# Altium footprint library 接插件.PCBLIB: 113 footprints (part 7 of 8)
Each footprint in its own frame and in the unit in brackets; x right, y up, seen from the top. Pads: shape width x height; smd on the part's side, far side on the other; paste and mask are expansions set on the pad; w line width, h text height; cw(c..) or ccw(c..) is an arc to the next point about the centre after c.
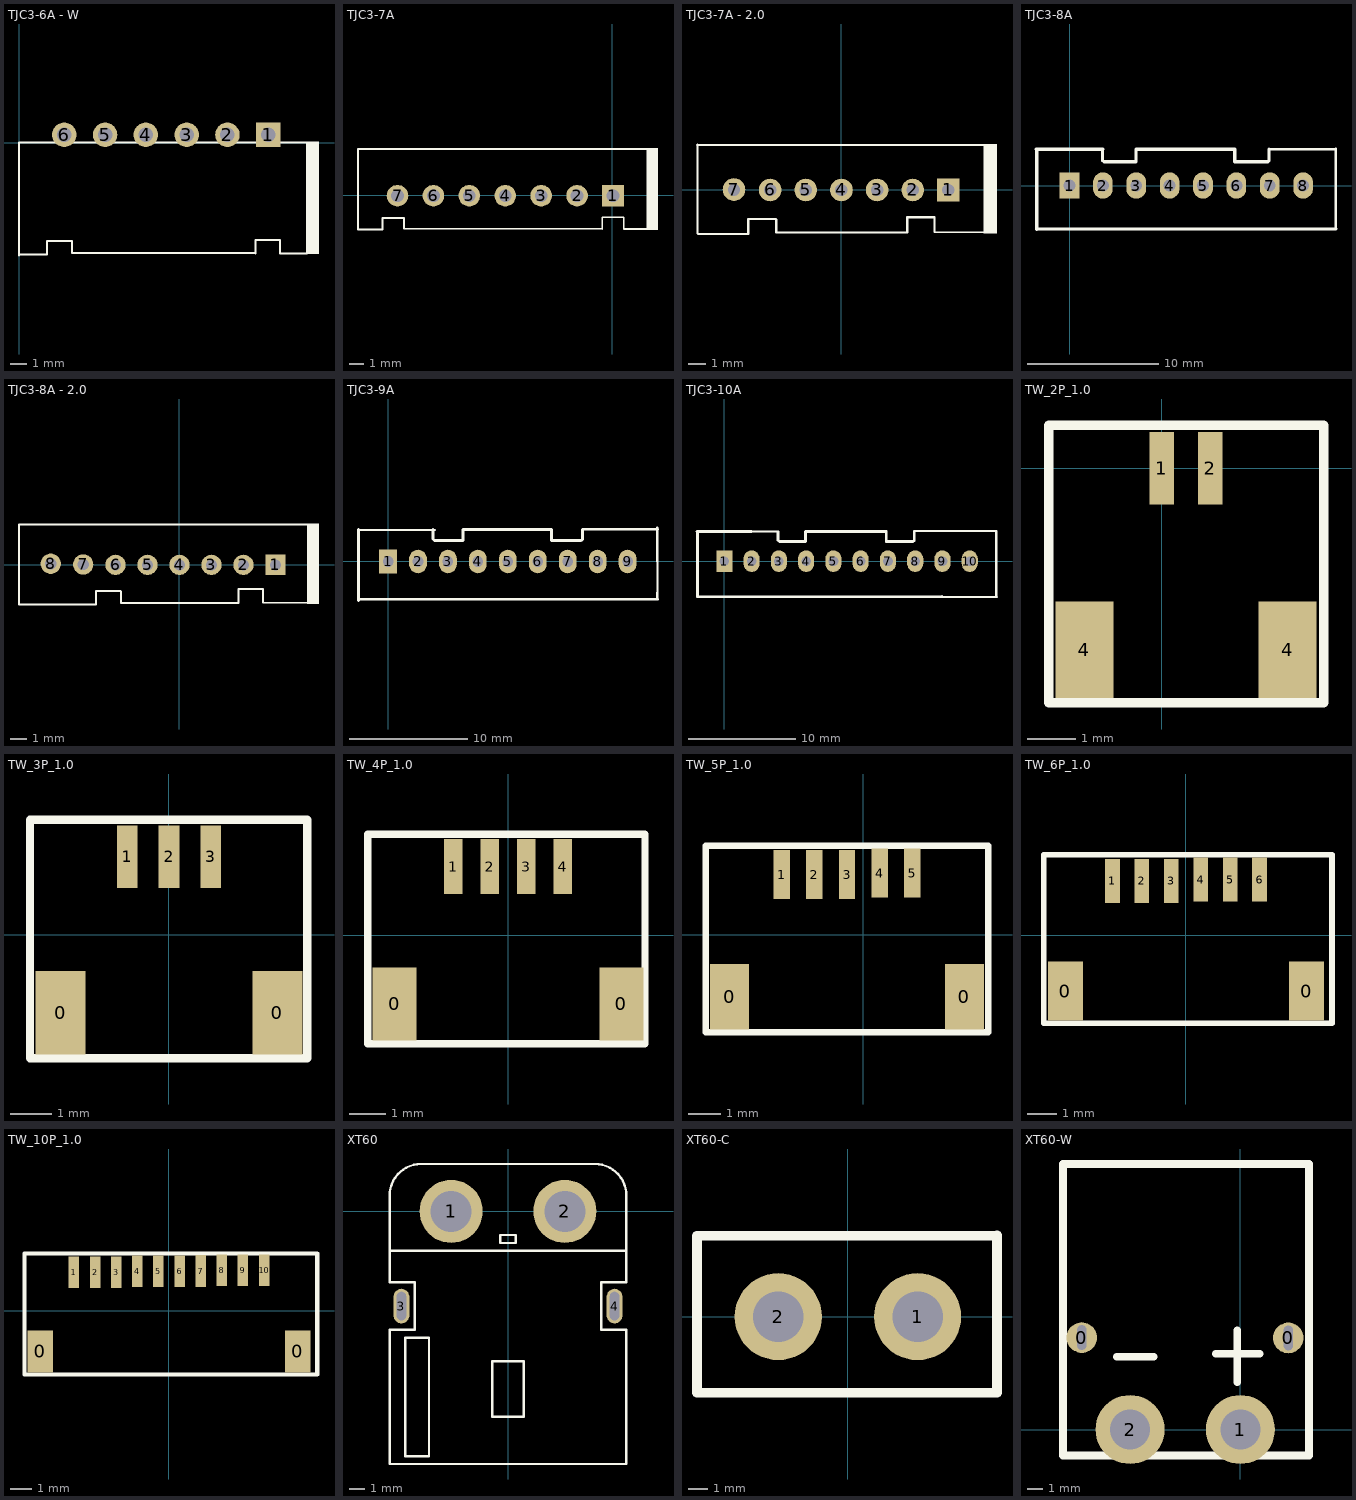
[diagram p6: the footprints below, top view; thin cyan lines are the x and y axes]

## TJC3-6A - W [mil]
pads (6):
  rect 60x60 hole 35.43: 1(610.31,19.75)
  round 60 hole 35.43: 2(510.31,19.75) 3(410.31,19.75) 4(310.31,19.75) 5(210.31,19.75) 6(110.31,19.75)
TopOverlay:
  rectangle: 705,-272.64 734.66,3.55
  lines w5: -0.67,-275.59 -0.67,0.72 ; -0.67,1.05 213.66,1.05 705,1.05 705,-269.69 ; 0.66,-273.17 67.66,-273.17 67.66,-240.65 ; 68.66,-240.17 128.66,-240.17 ; 120.33,1.05 120.66,0.72 ; 129.66,-241.17 129.66,-270.17 576.25,-270.17 ; 579.33,-270.61 579.33,-238.09 639.33,-238.09 639.33,-270.61 705,-270.61

## TJC3-7A [mil]
pads (7):
  rect 60x60 hole 35.43: 1(1.67,-0.92)
  round 60 hole 35.43: 2(-98.33,-0.92) 3(-198.33,-0.92) 4(-298.33,-0.92) 5(-398.33,-0.92) 6(-498.33,-0.92) 7(-598.33,-0.92)
TopOverlay:
  rectangle: 97.34,-96 127,131.5
  lines w5: -708.33,128.67 -708.33,-94.92 -641.33,-94.92 ; -708.33,129 -394,129 97.34,129 97.34,-93.44 31.67,-93.44 31.67,-60.92 -28.33,-60.92 -28.33,-93.44 ; -640,-95.52 -640,-63 -580,-63 -580,-92 ; -580,-93 -31.41,-93 ; -487.33,129 -487,128.67

## TJC3-7A - 2.0 [mm]
pads (7):
  rect 1.27x1.27 hole 0.7: 1(6.013,-0.012)
  round 1.27 hole 0.7: 2(4.013,-0.012) 3(2.013,-0.012) 4(0.013,-0.012) 5(-1.988,-0.012) 6(-3.988,-0.012) 7(-6.013,0.013)
TopOverlay:
  rectangle: 7.984,-2.462 8.738,2.563
  lines w0.1: -8.087,2.513 7.963,2.513 ; -8.062,-2.462 -8.062,2.538 ; 5.213,-2.387 8.163,-2.387
  lines w0.127: -8.037,-2.476 -5.219,-2.476 -5.219,-1.65 ; -5.193,-1.638 -3.669,-1.638 ; -3.644,-1.663 -3.644,-2.4 3.713,-2.4 ; 3.702,-2.361 3.702,-1.535 5.226,-1.535 5.226,-2.361

## TJC3-8A [mm]
pads (8):
  rect 1.5x2 hole 0.9: 1(0,0)
  oval 1.5x2 hole 0.9: 2(2.54,0) 3(5.08,0) 4(7.62,0) 5(10.16,0) 6(12.7,0) 7(15.24,0) 8(17.78,0)
TopOverlay:
  lines w0.2: 15.15,2.75 20.225,2.75 ; 20.275,-3.3 20.275,2.8
  lines w0.254: -2.55,2.775 2.53,2.775 ; -2.5,-3.325 20.28,-3.299 ; -2.5,-3.3 -2.5,2.7 ; 2.505,2.725 2.505,1.925 2.63,1.8 5.055,1.8 ; 15.18,2.75 15.18,1.9 15.08,1.8 12.58,1.8 12.58,2.75 5.055,2.75 5.055,1.8 ; 5.055,1.8 5.055,1.8

## TJC3-8A - 2.0 [mm]
pads (8):
  rect 1.27x1.27 hole 0.7: 1(6.013,-0.012)
  round 1.27 hole 0.7: 2(4.013,-0.012) 3(2.013,-0.012) 4(0.013,-0.012) 5(-1.988,-0.012) 6(-3.988,-0.012) 7(-6.013,0.013) 8(-8.038,0.063)
TopOverlay:
  rectangle: 7.984,-2.462 8.738,2.563
  lines w0.1: -10.025,-2.476 -10.025,2.513 7.963,2.513 ; 5.213,-2.387 8.163,-2.387
  lines w0.127: -10.025,-2.476 -5.219,-2.476 -5.219,-1.65 ; -5.193,-1.638 -3.669,-1.638 ; -3.644,-1.663 -3.644,-2.4 3.713,-2.4 ; 3.702,-2.361 3.702,-1.535 5.226,-1.535 5.226,-2.361

## TJC3-9A [mm]
pads (9):
  rect 1.5x2 hole 0.9: 1(0,0)
  oval 1.5x2 hole 0.9: 2(2.54,0) 3(5.08,0) 4(7.62,0) 5(10.16,0) 6(12.7,0) 7(15.24,0) 8(17.78,0) 9(20.32,0)
TopOverlay:
  lines w0.2: -2.55,-3.15 -2.5,-3.2 22.9,-3.2 ; -2.425,2.675 3.975,2.675 ; 16.5,2.725 22.875,2.725 ; 22.85,-2.625 22.85,-3.2 22.875,-3.225 ; 22.85,2.875 22.855,-2.95
  lines w0.254: -2.5,-3.3 -2.5,2.7 ; 3.805,2.7 3.805,1.9 3.93,1.775 6.355,1.775 ; 16.48,2.725 16.48,1.875 16.38,1.775 13.88,1.775 13.88,2.725 6.355,2.725 6.355,1.775 ; 6.355,1.775 6.355,1.775

## TJC3-10A [mm]
pads (10):
  rect 1.5x2 hole 0.9: 1(0,0)
  oval 1.5x2 hole 0.9: 2(2.54,0) 3(5.08,0) 4(7.62,0) 5(10.16,0) 6(12.7,0) 7(15.24,0) 8(17.78,0) 9(20.32,0) 10(22.86,0)
TopOverlay:
  lines w0.2: 2.525,2.775 5,2.775 ; 17.675,2.8 20.225,2.8 ; 19.5,-3.325 25.4,-3.325 ; 20.25,2.8 25.3,2.8 ; 25.325,-2.7 25.325,-3.275 25.35,-3.3 ; 25.325,2.8 25.33,-3.025
  lines w0.254: -2.55,2.775 2.53,2.775 ; -2.5,-3.325 20.28,-3.299 ; -2.5,-3.3 -2.5,2.7 ; 5.005,2.75 5.005,1.95 5.13,1.825 7.555,1.825 ; 17.68,2.775 17.68,1.925 17.58,1.825 15.08,1.825 15.08,2.775 7.555,2.775 7.555,1.825 ; 7.555,1.825 7.555,1.825

## TW_2P_1.0 [mm]
height 2.54
pads (4):
  rect 0.5x1.5 smd: 1(0,0) 2(1,0)
  rect 1.2x2 smd: 4(-1.6,-3.75) 4(2.6,-3.75)
TopOverlay:
  lines w0.2: -2.335,-4.842 3.346,-4.842 3.346,0.888 -2.335,0.888 -2.335,-4.842

## TW_3P_1.0 [mm]
height 2.54
pads (5):
  rect 1.2x2 smd: 0(-2.6,-1.875) 0(2.6,-1.875)
  rect 0.5x1.5 smd: 1(-1,1.875) 2(0,1.875) 3(1,1.875)
TopOverlay:
  lines w0.2: -3.335,-2.967 3.32,-2.967 3.32,2.763 -3.335,2.763 -3.335,-2.967

## TW_4P_1.0 [mm]
height 2.54
pads (6):
  rect 1.2x2 smd: 0(-3.1,-1.875) 0(3.1,-1.875)
  rect 0.5x1.5 smd: 1(-1.5,1.875) 2(-0.5,1.875) 3(0.5,1.875) 4(1.5,1.875)
TopOverlay:
  lines w0.2: -3.835,-2.967 -3.835,2.763 3.746,2.763 3.746,-2.967 -3.835,-2.967

## TW_5P_1.0 [mm]
height 2.54
pads (7):
  rect 1.2x2 smd: 0(-4.1,-1.897) 0(3.1,-1.897)
  rect 0.5x1.5 smd: 1(-2.5,1.853) 2(-1.5,1.853) 3(-0.5,1.853) 4(0.5,1.897) 5(1.5,1.897)
TopOverlay:
  lines w0.2: -4.835,-2.989 3.825,-2.989 3.825,2.741 -4.835,2.741 -4.835,-2.989

## TW_6P_1.0 [mm]
height 2.54
pads (8):
  rect 1.2x2 smd: 0(-4.1,-1.897) 0(4.1,-1.897)
  rect 0.5x1.5 smd: 1(-2.5,1.853) 2(-1.5,1.853) 3(-0.5,1.853) 4(0.5,1.897) 5(1.5,1.897) 6(2.5,1.897)
TopOverlay:
  lines w0.2: -4.835,-2.989 4.969,-2.989 4.969,2.741 -4.835,2.741 -4.835,-2.989

## TW_10P_1.0 [mm]
height 2.54
pads (12):
  rect 1.2x2 smd: 0(-6.1,-1.924) 0(6.1,-1.924)
  rect 0.5x1.5 smd: 1(-4.5,1.826) 2(-3.5,1.826) 3(-2.5,1.826) 4(-1.5,1.87) 5(-0.5,1.87) 6(0.5,1.87) 7(1.5,1.88) 8(2.5,1.924) 9(3.499,1.924) 10(4.5,1.924)
TopOverlay:
  lines w0.2: -6.835,-3.016 7.017,-3.016 7.017,2.714 -6.835,2.714 -6.835,-3.016

## XT60 [mm]
pads (4):
  round 4 hole 2.6: 1(-3.6,0) 2(3.6,0)
  oval 1x2.2 hole 0.6 slot 1.8 at 90 deg: 3(-6.75,-6) 4(6.75,-6)
TopOverlay:
  lines w0.15: -7.5,-2.5 7.5,-2.5 ; -7.5,-16 7.5,-16 7.5,-7.5 5.9,-7.5 5.9,-4.5 7.5,-4.5 7.5,1 ccw(c5.5,1) 5.5,3 -5.5,3 ccw(c-5.5,1) -7.5,1 -7.5,-4.5 -5.9,-4.5 -5.9,-7.5 -7.5,-7.5 -7.5,-16 ; -6.5,-15.5 -6.5,-8 -5,-8 -5,-14 -5,-15.5 -6.5,-15.5 ; -1,-13 -1,-9.5 1,-9.5 1,-13 -1,-13 ; -0.5,-2 0.5,-2 0.5,-1.5 0,-1.5 -0.5,-1.5 -0.5,-2

## XT60-C [mm]
pads (2):
  round 4.5 hole 2.6: 1(3.6,0) 2(-3.6,0)
TopOverlay:
  lines w0.5: 7.7,-3.925 -7.8,-3.925 -7.8,4.175 7.7,4.175 ; 7.7,-3.9 7.7,4.2

## XT60-W [mm]
pads (4):
  round 2 hole 0.6 slot 1.6 at 90 deg: 0(-10.35,6) 0(3.125,5.975)
  round 4.5 hole 2.6: 1(0,0) 2(-7.2,0)
TopOverlay:
  lines w0.5: -8.05,4.75 -5.675,4.75 ; -1.6,4.95 1.25,4.95 ; -0.2,3.075 -0.2,6.475 ; -11.575,-1.7 4.475,-1.7 4.475,17.325 -11.575,17.325 -11.575,-1.7
BottomOverlay:
  lines w0.5: -8.05,4.75 -5.675,4.75 ; -1.6,4.95 1.25,4.95 ; -0.2,3.075 -0.2,6.475